# Altium schematic symbol library ICs-SwitchingRegulators.SchLib: 13 symbols
Pins are listed as number, name and electrical type; pins without a type are passive.

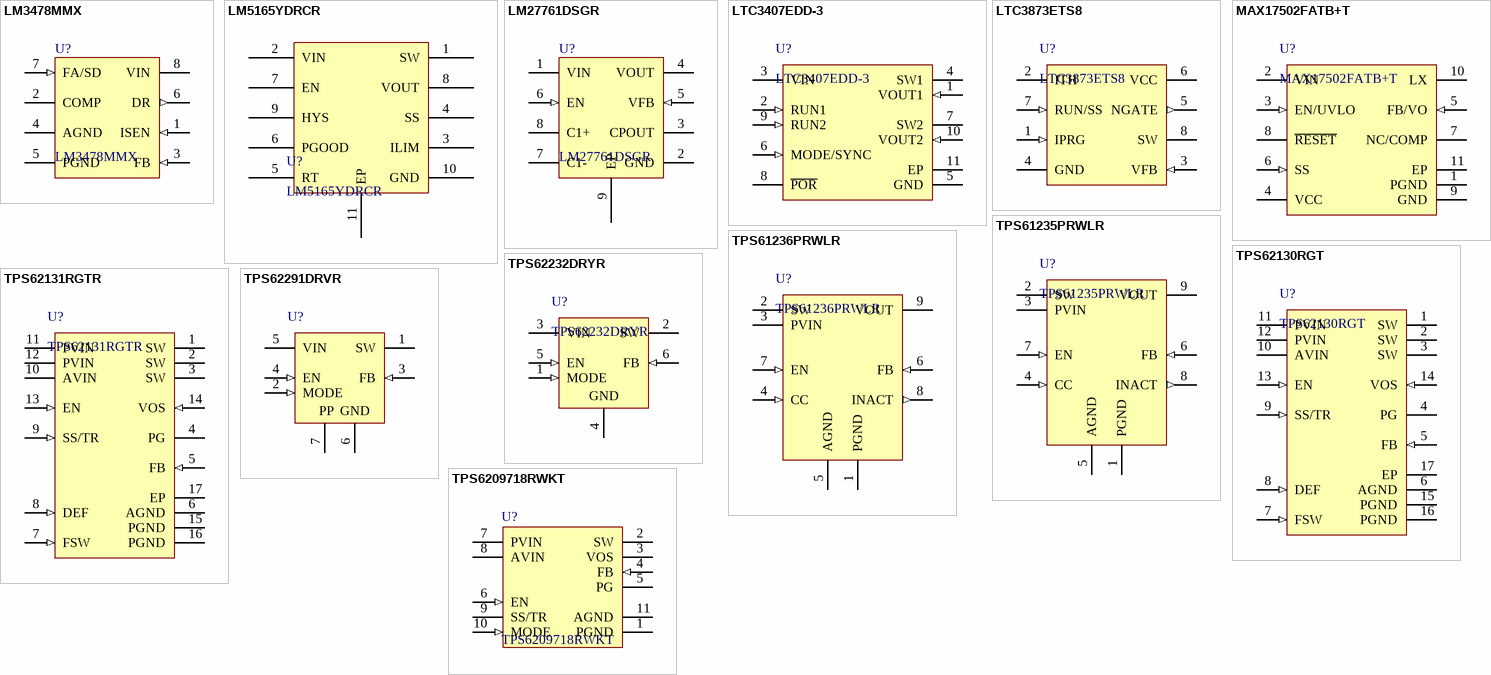
[diagram p0: symbols LM3478MMX to TPS6209718RWKT]

## LM3478MMX
designator U?
High Efficiency Low-Side N-Channel Controller for Switching Regulator, 8-pin MSOP, Pb-Free, 1000 Reel; PartNumber: LM3478MMX/NOPB; Manufacturer: Texas Instruments; Mounting Technology: Surface Mount; PackageReference: MSOP-8
footprint MSOP-8 (SOP, 8-Leads, Body 3x3mm, Pitch 0.65mm, IPC Medium Density)
pins: 1 ISEN (in), 2 COMP, 3 FB (in), 4 AGND (power), 5 PGND (power), 6 DR (out), 7 FA/SD (in), 8 VIN (power)

## LM5165YDRCR
designator U?
LM5165 3-V to 65-V Input, 150-mA Synchronous Buck Converter; Manufacturer: Texas Instruments; PartNumber: LM5165YDRCR; Mounting Technology: Surface Mount; PackageReference: VSON-10
footprint VSON-10 (3mmx3mm) (VSON, 10-Leads, Body 3.00x3.00mm, Pitch 0.50mm, Thermal Pad 2.40x1.49mm, IPC Medium Density)
pins: 1 SW, 2 VIN, 3 ILIM, 4 SS, 5 RT, 6 PGOOD, 7 EN, 8 VOUT, 9 HYS, 10 GND, 11 EP

## LM27761DSGR
designator U?
Switching Voltage Regulators Switch Cap Boost; Manufacturer: Texas Instruments; PartNumber: LM27761DSGR; Mounting Technology: Surface Mount; PackageReference: WSON-8
footprint WSON-8 (SON, 8-Leads, Body 2.00x2.00mm, Pitch 0.50mm, Thermal Pad 1.60x0.69mm, IPC Medium Density)
pins: 1 VIN (power), 2 GND (power), 3 CPOUT (power), 4 VOUT (power), 5 VFB (in), 6 EN (in), 7 C1- (power), 8 C1+ (power), 9 EP

## LTC3407EDD-3
designator U?
Manufacturer: Linear Technology; PartNumber: LTC3407EDD-3; PackageReference: SON-10; Mounting Technology: Surface Mount
footprint VSON-10 (3mmx3mm) (VSON, 10-Leads, Body 3.00x3.00mm, Pitch 0.50mm, Thermal Pad 2.40x1.49mm, IPC Medium Density)
pins: 1 VOUT1 (in) "Output Voltage Feedback Pin for Channel 1. An internal resistive divider divides the output voltage down for comparison to the internal reference voltage.", 2 RUN1 (in) "Regulator 1 Enable. Forcing this pin to VIN enables regulator 1, while forcing it to GND causes regulator 1 to shut down. Do not float this pin.", 3 VIN (power) "Main Power Supply. Must be closely decoupled to GND.", 4 SW1 (power) "Regulator 1 Switch Node Connection to the Inductor. This pin swings from VIN to GND", 5 GND (power) "Ground. This pin is not connected internally. Connect to PCB ground for shielding", 6 MODE/SYNC (in) "Combination Mode Selection and Oscillator Synchronization. This pin controls the operation of the device. When tied to VIN or GND, Burst Mode operation or pulse-skipping mode is selected, respectively. The oscillation (See Datasheet)", 7 SW2 (power) "Regulator 2 Switch Node Connection to the Inductor. This pin swings from VIN to GND.", 8 ~{POR} (oc) "Power-On Reset . This common-drain logic output is pulled to GND when the output voltage falls below -8.5% of regulation and goes high after 117ms when both channels are within regulation.", 9 RUN2 (in) "Regulator 2 Enable. Forcing this pin to VIN enables regulator 2, while forcing it to GND causes regulator 2 to shut down. Do not float this pin", 10 VOUT2 (in) "Output Voltage Feedback Pin for Channel 2. An internal resistive divider divides the output voltage down for comparison to the internal reference voltage.", 11 EP (power) "Power Ground. Connect to the (-) terminal of COUT, and (-) terminal of CIN. Must be connected to electrical ground on PCB."

## LTC3873ETS8
designator U?
PartNumber: LTC3873ETS8#PBF; Manufacturer: Linear Technology; PackageReference: TSOT-23-8; Mounting Technology: Surface Mount
footprint SOT-23-8 (SOT23, 8-Leads, Body 2.90x1.60mm, Pitch 0.65mm, IPC Medium Density)
pins: 1 IPRG (in) "Current Sense Limit Select Pin.", 2 ITH "This pin serves as the error ampli?er compensation point. Nominal voltage range for this pin is 0.7V to 1.9V.", 3 VFB (in) "This pin receives the feedback voltage from an external resistor divider across the output.", 4 GND (power) "Ground Pin.", 5 NGATE (out) "Gate Drive for the External N-Channel MOSFET. This pin swings from 0V to VIN.", 6 VCC (power) "Supply Pin. This pin must be closely decoupled to GND (Pin 4).", 7 RUN/SS (in) "Shutdown and External Soft-Start Pin. In shutdown, all functions are disabled and the NGATE pin is held low.", 8 SW "Switch node connection to inductor and current sense input pin through external slope compensation resistor. Normally, the external N-channel MOSFET’s drain is connected to this pin."

## MAX17502FATB+T
designator U?
Ultra-Small, High-Efficiency, Synchronous Step-Down DC-DC Converter, 4.5 to 60 V, 1 A, -40 to 125 degC, 10-Pin TDFN (T1032N+1), RoHS, Tape and Reel; Manufacturer: Maxim Integrated; PartNumber: MAX17502FATB+T; Mounting Technology: Surface Mount; PackageReference: TDFN-10-EP
footprint TDFN-10-EP (TDFN, 10-Leads, Body 2x3mm, Pitch 0.50mm, Thermal Pad 0.8x2.08mm)
pins: 1 PGND (power) "Power Ground. Connect PGND externally to the power ground plane. Connect GND and PGND pins together at the ground return path of the VCC bypass capacitor.", 2 VIN (power) "Power-Supply Input. The input supply range is from 4.5V to 60V.", 3 EN/UVLO (in) "Enable/Undervoltage Lockout Input. Drive EN/UVLO high to enable the output voltage. Connect to the center of the resistive divider between VIN and GND to set the input voltage (undervoltage threshold) at which the device turns on. Pull up to VIN for always on.", 4 VCC (power) "5V LDO Output. Bypass VCC with 1uF ceramic capacitance to GND.", 5 FB/VO (in) "Feedback Input. For fixed output voltage devices, directly connect FB/VO to the output. For adjustable output voltage devices, connect FB/VO to the center of the resistive divider between VOUT and GND.", 6 SS (in) "Soft-Start Input. Connect a capacitor from SS to GND to set the soft-start time", 7 NC/COMP "For fixed output voltage devices, leave this pin unconnected. For adjustable output voltage devices, connect an RC network from COMP to GND.", 8 ~{RESET} (oc) "Open-Drain R\E\S\E\T\ Output. The R\E\S\E\T\ output is driven low if FB drops below 92.5% of its set value. R\E\S\E\T\ goes high 1024 clock cycles after FB rises above 95.5% of its set value. R\E\S\E\T\ is valid when the device is enabled and VIN is above 4.5V", 9 GND (power) "Analog Ground", 10 LX "Switching Node. Connect LX to the switching side of the inductor. LX is high impedance when the device is in shutdown mode.", 11 EP (power) "Exposed Pad. Connect to the GND pin of the IC. Connect to a large copper plane below the IC to improve heat dissipation capability."

## TPS61235PRWLR
designator U?
Manufacturer: Texas Instruments; PartNumber: TPS61235PRWLR; PackageReference: VQFN-9; Mounting Technology: Surface Mount
footprint VQFN-9
pins: 1 PGND (power) "Power ground", 2 SW (power) "Supply voltage for power stage. Connect to same source as AVIN", 3 PVIN (power) "Supply voltage for power stage. Connect to same source as AVIN", 4 CC (in) "Soft-Start/Tracking Pin .An external capacitor connected to this pin sets the internal voltage reference rise time .It can be used for tracking and sequencing.", 5 AGND (power) "Analog Ground", 6 FB (in) "Output voltage sense pin and connection for the control loop circuitry.", 7 EN (in) "Enable input (High = enabled, Low = disabled)", 8 INACT (out) "Voltage feedback of adjustable version. Connect resistive voltage divider to this pin. It is recommended to connect FB to AGND on fixed output voltage versions for improved thermal performance", 9 VOUT (power) "Switch node, which is connected to the internal MOSFET switches. Connect inductor between SW and output capacitor"

## TPS61236PRWLR
designator U?
Manufacturer: Texas Instruments; PartNumber: TPS61236PRWLR; PackageReference: VQFN-9; Mounting Technology: Surface Mount
footprint VQFN-9
pins: 1 PGND (power) "Power ground", 2 SW (power) "Supply voltage for power stage. Connect to same source as AVIN", 3 PVIN (power) "Supply voltage for power stage. Connect to same source as AVIN", 4 CC (in) "Soft-Start/Tracking Pin .An external capacitor connected to this pin sets the internal voltage reference rise time .It can be used for tracking and sequencing.", 5 AGND (power) "Analog Ground", 6 FB (in) "Output voltage sense pin and connection for the control loop circuitry.", 7 EN (in) "Enable input (High = enabled, Low = disabled)", 8 INACT (out) "Voltage feedback of adjustable version. Connect resistive voltage divider to this pin. It is recommended to connect FB to AGND on fixed output voltage versions for improved thermal performance", 9 VOUT (power) "Switch node, which is connected to the internal MOSFET switches. Connect inductor between SW and output capacitor"

## TPS62130RGT
designator U?
Manufacturer: Texas Instruments; PartNumber: TPS62130RGT; PackageReference: QFN-16; Mounting Technology: Surface Mount
footprint QFN-16 (QFN, 16-Leads, Body 3.00x3.00mm, Pitch 0.50mm, Thermal Pad 1.80x1.80mm, IPC Medium Density)
pins: 1 SW (power) "Switch node, which is connected to the internal MOSFET switches. Connect inductor between SW and output capacitor", 2 SW (power) "Switch node, which is connected to the internal MOSFET switches. Connect inductor between SW and output capacitor", 3 SW (power) "Switch node, which is connected to the internal MOSFET switches. Connect inductor between SW and output capacitor", 4 PG (hiz) "Output power good (High = VOUT ready, Low = VOUT below nominal regulation) ; open drain (requires pull-up resistor; goes high impedance, when device is switched off)", 5 FB (in) "Voltage feedback of adjustable version. Connect resistive voltage divider to this pin. It is recommended to connect FB to AGND on fixed output voltage versions for improved thermal performance", 6 AGND (power) "Analog Ground", 7 FSW (in) "Switching Frequency Select (Low ˜ 2.5MHz, High ˜ 1.25MHz for typical operation)", 8 DEF (in) "Output Voltage Scaling (Low = nominal, High = nominal + 5%)", 9 SS/TR (in) "Soft-Start/Tracking Pin .An external capacitor connected to this pin sets the internal voltage reference rise time .It can be used for tracking and sequencing.", 10 AVIN (power) "Supply voltage for control circuitry. Connect to same source as PVIN.", 11 PVIN (power) "Supply voltage for power stage. Connect to same source as AVIN", 12 PVIN (power) "Supply voltage for power stage. Connect to same source as AVIN", 13 EN (in) "Enable input (High = enabled, Low = disabled)", 14 VOS (in) "Output voltage sense pin and connection for the control loop circuitry.", 15 PGND (power) "Power ground", 16 PGND (power) "Power ground", 17 EP (power) "Must be connected to AGND. Must be soldered to achieve appropriate power dissipation and mechanical reliability"

## TPS62131RGTR
designator U?
Manufacturer: Texas Instruments; PartNumber: TPS62131RGTR; PackageReference: QFN-16; Mounting Technology: Surface Mount
footprint QFN-16 (QFN, 16-Leads, Body 3.00x3.00mm, Pitch 0.50mm, Thermal Pad 1.80x1.80mm, IPC Medium Density)
pins: 1 SW (power) "Switch node, which is connected to the internal MOSFET switches. Connect inductor between SW and output capacitor", 2 SW (power) "Switch node, which is connected to the internal MOSFET switches. Connect inductor between SW and output capacitor", 3 SW (power) "Switch node, which is connected to the internal MOSFET switches. Connect inductor between SW and output capacitor", 4 PG (hiz) "Output power good (High = VOUT ready, Low = VOUT below nominal regulation) ; open drain (requires pull-up resistor; goes high impedance, when device is switched off)", 5 FB (in) "Voltage feedback of adjustable version. Connect resistive voltage divider to this pin. It is recommended to connect FB to AGND on fixed output voltage versions for improved thermal performance", 6 AGND (power) "Analog Ground", 7 FSW (in) "Switching Frequency Select (Low ˜ 2.5MHz, High ˜ 1.25MHz for typical operation)", 8 DEF (in) "Output Voltage Scaling (Low = nominal, High = nominal + 5%)", 9 SS/TR (in) "Soft-Start/Tracking Pin .An external capacitor connected to this pin sets the internal voltage reference rise time .It can be used for tracking and sequencing.", 10 AVIN (power) "Supply voltage for control circuitry. Connect to same source as PVIN.", 11 PVIN (power) "Supply voltage for power stage. Connect to same source as AVIN", 12 PVIN (power) "Supply voltage for power stage. Connect to same source as AVIN", 13 EN (in) "Enable input (High = enabled, Low = disabled)", 14 VOS (in) "Output voltage sense pin and connection for the control loop circuitry.", 15 PGND (power) "Power ground", 16 PGND (power) "Power ground", 17 EP (power) "Must be connected to AGND. Must be soldered to achieve appropriate power dissipation and mechanical reliability"

## TPS62232DRYR
designator U?
Switching Voltage Regulators 3 MHz Ultra Small Step Down Converter; Manufacturer: Texas Instruments; PartNumber: TPS62232DRYR; PackageReference: USON-6; Mounting Technology: Surface Mount
footprint USON-6 (SON, 6-Leads, Body 1.45x1mm, Pitch 0.5mm)
pins: 1 MODE (in) "MODE pin = high forces the device to operate in PWM mode. Mode = low enables the Power Save Mode with automatic transition from PFM (Pulse frequency mode) to PWM (pulse width modulation) mode.", 2 SW (power) "This is the switch pin and is connected to the internal MOSFET switches. Connect the inductor to this terminal", 3 VIN (power) "VIN power supply pin.", 4 GND (power) "GND supply pin", 5 EN (in) "This is the enable pin of the device. Pulling this pin to low forces the device into shutdown mode. Pulling this pin to high enables the device. This pin must be terminated.", 6 FB (in) "Feedback Pin for the internal regulation loop. Connect this pin directly to the output capacitor."

## TPS62291DRVR
designator U?
Voltage Regulators - Switching Regulators 2.25MHz 1A Step-Down Cnvrtr 3.3V Output; PartNumber: TPS62291DRVR; Manufacturer: Texas Instruments; PackageReference: WSON-6; PackageDescription: SON, 6-Leads, Body 2x2mm, Pitch 0.65mm, Thermal Pad 1.6x1mm, TI Recommended; Mounting Technology: Surface Mount
footprint WSON-6 (SON, 6-Leads, Body 2x2mm, Pitch 0.65mm, Thermal Pad 1.6x1mm, TI Recommended)
pins: 1 SW (power) "This is the switch pin and is connected to the internal MOSFET switches. Connect the external inductor between this terminal and the output capacitor.", 2 MODE (in) "MODE pin = high forces the device to operate in fixed-frequency PWM mode. Mode pin = low enables the Power Save Mode with automatic transition from PFM mode to fixed-frequency PWM mode", 3 FB (in) "Feedback Pin for the internal regulation loop. Connect the external resistor divider to this pin. In case of fixed output voltage option, connect this pin directly to the output capacitor", 4 EN (in) "This is the enable pin of the device. Pulling this pin to low forces the device into shutdown mode. Pulling this pin to high enables the device. This pin must be terminated.", 5 VIN (power) "VIN power supply pin", 6 GND (power) "GND supply pin", 7 EP "Exposed Thermal Pad"
text: PP

## TPS6209718RWKT
designator U?
TPS62097 2-A High Efficiency Step-Down Converter with iDCS Control, Forced PWM Mode and Selective Switching Frequency; Manufacturer: Texas Instruments; PartNumber: TPS6209718RWKT; Mounting Technology: Surface Mount; PackageReference: VQFN-11
footprint VQFN-11
pins: 1 PGND (power), 2 SW (power), 3 VOS, 4 FB (in), 5 PG, 6 EN (in), 7 PVIN (power), 8 AVIN (power), 9 SS/TR, 10 MODE (in), 11 AGND (power)